# Altium footprint library LED Lighting - Color.PcbLib: 3 footprints
Each footprint in its own frame and in the unit in brackets; x right, y up, seen from the top. Pads: shape width x height; smd on the part's side, far side on the other; paste and mask are expansions set on the pad; w line width, h text height; cw(c..) or ccw(c..) is an arc to the next point about the centre after c.
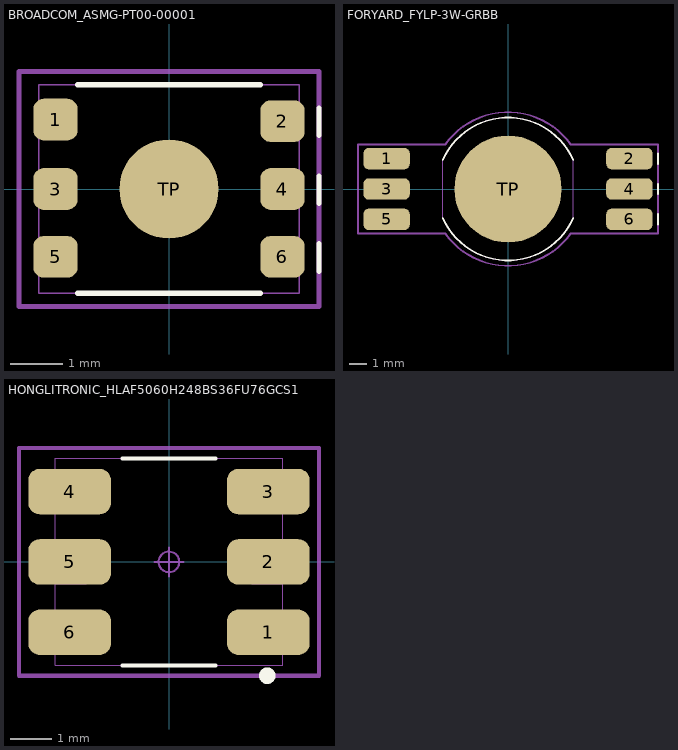
[diagram p0: the footprints below, top view; thin cyan lines are the x and y axes]

## BROADCOM_ASMG-PT00-00001 [mm]
pads (7):
  rrect50% 0.85x0.8 smd mask+0.04: 1(-2.175,1.33) 2(2.175,1.3) 3(-2.175,0) 4(2.175,0) 5(-2.175,-1.3) 6(2.175,-1.3)
  round 1.9 smd mask+0.04: TP(0,0)
Top Overlay:
  lines w0.1: -1.75,-2 1.75,-2 ; -1.75,2 1.75,2 ; 2.875,-1.575 2.875,-1.05 ; 2.875,-0.275 2.875,0.25 ; 2.875,1.025 2.875,1.55
Mechanical 13:
  lines w0.025: -2.5,-1.58 -2.1,-1.58 -2.1,-1.005 -2.5,-1.005 ; -2.5,-0.28 -2.1,-0.28 -2.1,0.295 -2.5,0.295 ; -2.5,1.05 -2.1,1.05 -2.1,1.625 -2.5,1.625 ; 2.5,-1.595 2.1,-1.595 2.1,-1.02 2.5,-1.02 ; 2.5,-0.295 2.1,-0.295 2.1,0.28 2.5,0.28 ; 2.5,1.005 2.1,1.005 2.1,1.58 2.5,1.58 ; -2.5,-2 -2.5,2 2.5,2 2.5,-2 -2.5,-2
Mechanical 15:
  circle w0.05: c0,0 r0.25
  lines w0.05: -0.35,0 0.35,0 ; 0,-0.35 0,0.35
  lines w0.1: -2.875,-2.25 2.875,-2.25 2.875,2.25 -2.875,2.25 -2.875,-2.25
3D body "ASMG-PT00-00001.step": height 1.84, standoff -0.01, extent -2.5,-2 2.5,2

## FORYARD_FYLP-3W-GRBB [mm]
pads (7):
  rrect50% 2.6x1.2 smd mask+0.04: 1(-6.8,1.7) 2(6.8,1.7) 3(-6.8,0) 4(6.8,0) 5(-6.8,-1.7) 6(6.8,-1.7)
  round 6 smd mask+0.04: TP(0,0)
Top Overlay:
  lines w0.1: -3.654,-1.627 ccw(c0,0) 3.654,-1.627 ; -3.654,1.627 cw(c0,0) 3.654,1.627 ; 8.4,-2 8.4,-1.4 ; 8.4,-0.3 8.4,0.3 ; 8.4,1.4 8.4,2
Mechanical 13:
  lines w0.025: -3.654,-1.627 ccw(c0,0) 3.654,-1.627 ; -3.654,1.627 cw(c0,0) 3.654,1.627 ; -3.65,-1.625 -3.65,1.625 ; 3.65,-1.625 3.65,1.625
Mechanical 15:
  circle w0.05: c0,0 r0.25
  lines w0.05: -0.35,0 0.35,0 ; 0,-0.35 0,0.35
  lines w0.1: -3.5,-2.503 ccw(c0,0) 3.5,-2.503 ; -3.5,-2.5 -8.4,-2.5 -8.4,2.5 -3.5,2.5 ; -3.5,2.503 cw(c0,0) 3.5,2.503 ; 3.5,-2.5 8.4,-2.5 8.4,2.5 3.5,2.5
3D body "POWERLEDv4.step": height 5.3, standoff 0, extent -7.25,-4 7.25,4

## HONGLITRONIC_HLAF5060H248BS36FU76GCS1 [mm]
pads (6):
  rrect50% 2x1.1 smd mask+0.04: 1(2.4,-1.7) 2(2.4,0) 3(2.4,1.7) 4(-2.4,1.7) 5(-2.4,0) 6(-2.4,-1.7)
Top Overlay:
  circle w0.2: c2.375,-2.75 r0.1
  lines w0.1: -1.125,-2.5 1.125,-2.5 ; -1.125,2.5 1.125,2.5
Mechanical 13:
  lines w0.025: -2.75,-2.225 -2,-2.225 -2,-1.175 -2.75,-1.175 ; -2.75,-0.525 -2,-0.525 -2,0.525 -2.75,0.525 ; -2.75,1.175 -2,1.175 -2,2.225 -2.75,2.225 ; 2.75,-2.225 2,-2.225 2,-1.175 2.75,-1.175 ; 2.75,-0.525 2,-0.525 2,0.525 2.75,0.525 ; 2.75,1.175 2,1.175 2,2.225 2.75,2.225 ; -2.75,-2.5 2.75,-2.5 2.75,2.5 -2.75,2.5 -2.75,-2.5
Mechanical 15:
  circle w0.05: c0,0 r0.25
  lines w0.05: -0.35,0 0.35,0 ; 0,-0.35 0,0.35
  lines w0.1: -3.625,-2.75 -3.625,2.75 3.625,2.75 3.625,-2.75 -3.625,-2.75
3D body "LED_5050.step": height 1.55, standoff 0, extent -2.75,-2.5 2.75,2.5